# Altium footprint library 5040500491.PcbLib: 2 footprints
Each footprint in its own frame and in the unit in brackets; x right, y up, seen from the top. Pads: shape width x height; smd on the part's side, far side on the other; paste and mask are expansions set on the pad; w line width, h text height; cw(c..) or ccw(c..) is an arc to the next point about the centre after c.
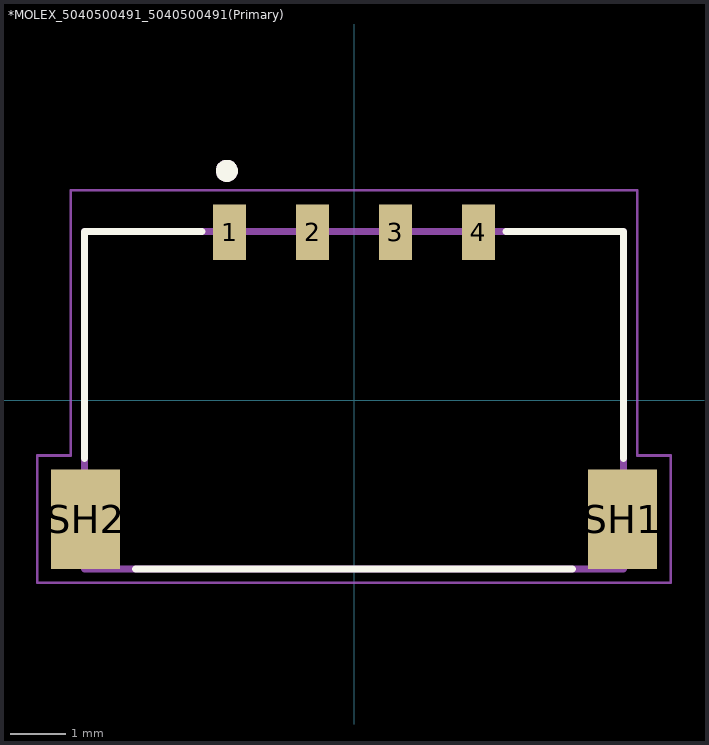
[diagram p0: the footprints below, top view; thin cyan lines are the x and y axes]

## *MOLEX_5040500491_5040500491(Primary) [mm]
pads (6):
  rect 0.6x1 smd: 1(-2.25,3.04) 2(-0.75,3.04) 3(0.75,3.04) 4(2.25,3.04)
  rect 1.25x1.8 smd: SH1(4.855,-2.15) SH2(-4.855,-2.15)
Top Overlay:
  circle w0.2: c-2.3,4.15 r0.1
  lines w0.127: -4.875,-1.05 -4.875,3.05 -2.75,3.05 ; -3.95,-3.05 3.95,-3.05 ; 2.75,3.05 4.875,3.05 4.875,-1.05
Mechanical 4:
  circle w0.2: c-2.3,4.15 r0.1
  circle w0.2: c-2.3,4.15 r0.1
  lines w0.127: -4.875,-3.05 -4.875,3.05 ; -4.875,-3.05 4.875,-3.05 ; -4.875,-3.05 -4.875,3.05 ; -4.875,-3.05 4.875,-3.05 ; -4.875,3.05 4.875,3.05 ; -4.875,3.05 4.875,3.05 ; 4.875,-3.05 4.875,3.05 ; 4.875,-3.05 4.875,3.05
Mechanical 16:
  lines w0.05: -5.73,-3.3 -5.73,-1 -5.125,-1 -5.125,3.8 5.125,3.8 5.125,-1 5.73,-1 5.73,-3.3 -5.73,-3.3

## PCBComponent_1 [mm]